# EAGLE library part 282843-7 (library con-tyco)
TERMINAL BLOCK Buchanan, Euro Style
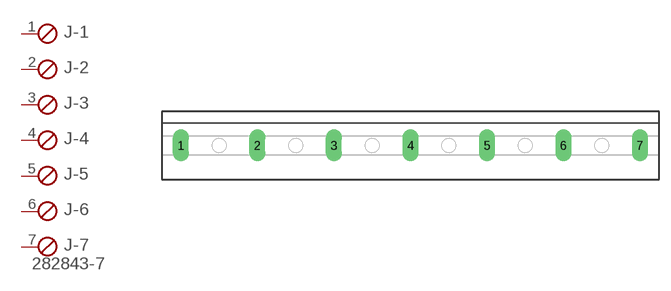
[diagram p1: symbol with the pads of 282843-7; footprint 282843-7]

Designator prefix J; gates -1=SKB -2=SKB -3=SKB -4=SKB -5=SKB -6=SKB -7=SKBV

## 282843-7  [282843-7]
1  -1:1  pas
2  -2:1  pas
3  -3:1  pas
4  -4:1  pas
5  -5:1  pas
6  -6:1  pas
7  -7:1  pas

## Footprint 282843-7 (pad centres in mm)
TERMINAL BLOCK Pitch 0.400" (10.16mm)
drill 1.422 long: 1 -30.48,0; 2 -20.32,0; 3 -10.16,0; 4 0,0; 5 10.16,0; 6 20.32,0; 7 30.48,0